# Altium integrated library Microchip Touch Screen Controller.IntLib: 26 symbols (part 1 of 2)
Pins are listed as number, name and electrical type; pins without a type are passive.

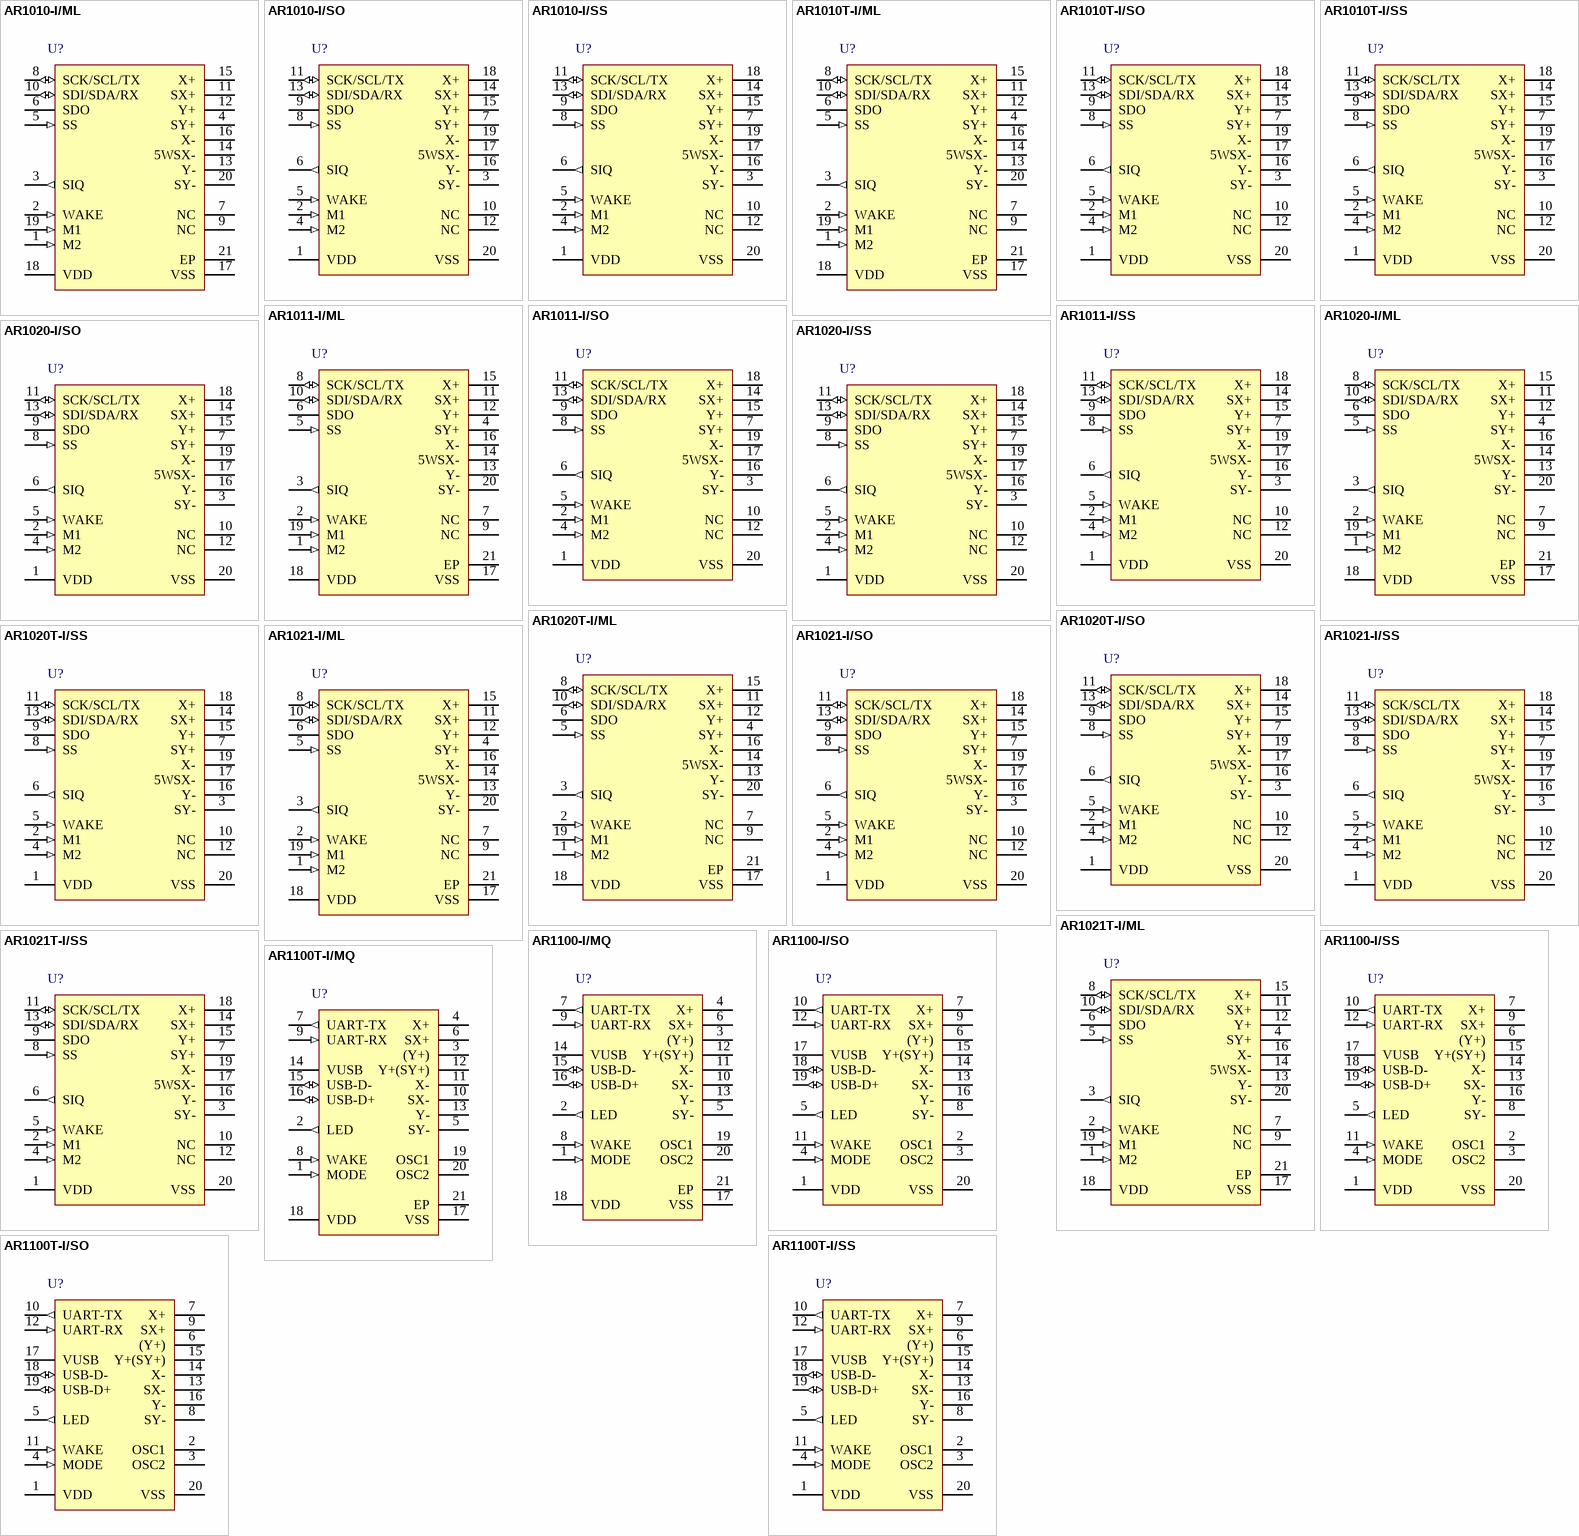
[diagram p0: symbols AR1010-I/ML to AR1100T-I/SS]

## AR1010-I/ML
designator U?
AR1000 Series Resistive Touch Screen Controller, 1024 x 1024 Resolution, 3.3 Vdc, 5.5 Vdc, UART Communication, -40 to 85 degC, 20-pin QFN (ML20), Tube; Manufacturer: Microchip; PartNumber: AR1010-I/ML; DatasheetVersion: Rev. B; PackageVersion: C04-126B; PackageReference: QFN-ML20; PackageDescription: 20-Lead Plastic Quad Flat, No Lead Package, 4 x 4 mm Body, 0.5 mm Pitch; Supplier 1: Digi-Key; Supplier Part Number 1: AR1010-I/ML-ND; Supplier 2: Farnell; Supplier Part Number 2: 1755836; Supplier 3: Newark; Supplier Part Number 3: 24R5595; Supplier 4: Mouser; Supplier Part Number 4: 579-AR1010-I/ML; Mounting Technology: Surface Mount; ComponentLink1Description: Manufacturer URL; ComponentLink1URL: http://www.microchip.com; ComponentLink2Description: Datasheet; ComponentLink2URL: http://ww1.microchip.com/downloads/en/DeviceDoc/41393B.pdf; ComponentLink3Description: Package Specification; ComponentLink3URL: http://www.microchip.com/stellent/groups/techpub_sg/documents/packagingspec/en012702.pdf; ComponentLink4Description: Product URL; ComponentLink4URL: http://www.microchip.com/AR1010
footprint MCHP-QFN-ML20_N (QFN, 20-Leads, Body 4x4mm, Pitch 0.5mm, Thermal Pad 2.7X2.7mm, IPC Medium Density)
footprint MCHP-QFN-ML20_L (QFN, 20-Leads, Body 4x4mm, Pitch 0.5mm, Thermal Pad 2.7X2.7mm, IPC High Density)
footprint MCHP-QFN-ML20_M (QFN, 20-Leads, Body 4x4mm, Pitch 0.5mm, Thermal Pad 2.7X2.7mm, IPC Low Density)
pins: 1 M2 (in) "4/8-wire or 5-wire Sensor  Selection", 2 WAKE (in) "Touch Wake-up/Touch Detection", 3 SIQ (out) "LED Drive/SPI Interrupt. No connect, if not used.", 4 SY+ "Sense Y+ (8-wire). Tie to VSS, if not used.", 5 SS (in) "Slave Select (SPI). Tie to VSS, if not used.", 6 SDO (hiz) "SPI Serial Data Output/I 2 C Interrupt. Tie to Vss, if UART.", 7 NC "No connection. No connect or tie to VSS or VDD.", 8 SCK/SCL/TX (io) "SPI/I2C Serial Clock/UART Transmit", 9 NC "No connection. No connect or tie to VSS or VDD.", 10 SDI/SDA/RX (io) "I2C Serial Data/SPI Serial Data Input/UART Receive", 11 SX+ "Sense X+ (8-wire). Tie to VSS, if not used.", 12 Y+ "Y+ Drive", 13 Y- "Y- Drive", 14 5WSX- "5W Sense (5-wire)/Sense X- (8-wire). Tie to VSS, if not used.", 15 X+ "X+ Drive", 16 X- "X- Drive", 17 VSS (power) "Supply Voltage Ground", 18 VDD (power) "Supply Voltage", 19 M1 (in) "Communication Selection", 20 SY- "Sense Y- (8-wire). Tie to VSS, if  not used.", 21 EP

## AR1010-I/SO
designator U?
AR1000 Series Resistive Touch Screen Controller, 1024 x 1024 Resolution, 3.3 Vdc, 5.5 Vdc, UART Communication, -40 to 85 degC, 20-pin SOIC (SO20), Tube; Manufacturer: Microchip; PartNumber: AR1010-I/SO; DatasheetVersion: Rev. B; PackageVersion: C04-094C; PackageReference: SOIC-SO20; PackageDescription: 20-Lead Plastic Small Outline, 7.5 x 12.8 mm Body, 1.27 mm Pitch; Supplier 1: Digi-Key; Supplier Part Number 1: AR1010-I/SO-ND; Supplier 2: Farnell; Supplier Part Number 2: 1755837; Supplier 3: Newark; Supplier Part Number 3: 24R5596; Supplier 4: Mouser; Supplier Part Number 4: 579-AR1010-I/SO; Mounting Technology: Surface Mount; ComponentLink1Description: Manufacturer URL; ComponentLink1URL: http://www.microchip.com; ComponentLink2Description: Datasheet; ComponentLink2URL: http://ww1.microchip.com/downloads/en/DeviceDoc/41393B.pdf; ComponentLink3Description: Package Specification; ComponentLink3URL: http://www.microchip.com/stellent/groups/techpub_sg/documents/packagingspec/en012702.pdf; ComponentLink4Description: Product URL; ComponentLink4URL: http://www.microchip.com/AR1010
footprint MCHP-SOIC-SO20_N (SOIC, 20-Leads, Body 12.8x7.5mm, Pitch 1.27mm, , IPC Medium Density)
footprint MCHP-SOIC-SO20_L (SOIC, 20-Leads, Body 12.8x7.5mm, Pitch 1.27mm, , IPC High Density)
footprint MCHP-SOIC-SO20_M (SOIC, 20-Leads, Body 12.8x7.5mm, Pitch 1.27mm, , IPC Low Density)
pins: 1 VDD (power) "Supply Voltage", 2 M1 (in) "Communication Selection", 3 SY- "Sense Y- (8-wire). Tie to VSS, if  not used.", 4 M2 (in) "4/8-wire or 5-wire Sensor  Selection", 5 WAKE (in) "Touch Wake-up/Touch Detection", 6 SIQ (out) "LED Drive/SPI Interrupt. No connect, if not used.", 7 SY+ "Sense Y+ (8-wire). Tie to VSS, if not used.", 8 SS (in) "Slave Select (SPI). Tie to VSS, if not used.", 9 SDO (hiz) "SPI Serial Data Output/I 2 C Interrupt. Tie to Vss, if UART.", 10 NC "No connection. No connect or tie to VSS or VDD.", 11 SCK/SCL/TX (io) "SPI/I2C Serial Clock/UART Transmit", 12 NC "No connection. No connect or tie to VSS or VDD.", 13 SDI/SDA/RX (io) "I2C Serial Data/SPI Serial Data Input/UART Receive", 14 SX+ "Sense X+ (8-wire). Tie to VSS, if not used.", 15 Y+ "Y+ Drive", 16 Y- "Y- Drive", 17 5WSX- "5W Sense (5-wire)/Sense X- (8-wire). Tie to VSS, if not used.", 18 X+ "X+ Drive", 19 X- "X- Drive", 20 VSS (power) "Supply Voltage Ground"

## AR1010-I/SS
designator U?
AR1000 Series Resistive Touch Screen Controller, 1024 x 1024 Resolution, 3.3 Vdc, 5.5 Vdc, UART Communication, -40 to 85 degC, 20-pin SSOP (SS20), Tube; Manufacturer: Microchip; PartNumber: AR1010-I/SS; DatasheetVersion: Rev. B; PackageVersion: C04-072B; PackageReference: SSOP-SS20; PackageDescription: 20-Lead Plastic Shrink Small Outline, 5.3 x 7.2 mm Body, 0.65 mm Pitch; Supplier 1: Digi-Key; Supplier Part Number 1: AR1010-I/SS-ND; Supplier 2: Farnell; Supplier Part Number 2: 1755838; Supplier 3: Newark; Supplier Part Number 3: 24R5597; Supplier 4: Mouser; Supplier Part Number 4: 579-AR1010-I/SS; Mounting Technology: Surface Mount; ComponentLink1Description: Manufacturer URL; ComponentLink1URL: http://www.microchip.com; ComponentLink2Description: Datasheet; ComponentLink2URL: http://ww1.microchip.com/downloads/en/DeviceDoc/41393B.pdf; ComponentLink3Description: Package Specification; ComponentLink3URL: http://www.microchip.com/stellent/groups/techpub_sg/documents/packagingspec/en012702.pdf; ComponentLink4Description: Product URL; ComponentLink4URL: http://www.microchip.com/AR1010
footprint MCHP-SSOP-SS20_N (SOP, 20-Leads, Body 7.2x5.3mm, Pitch 0.65mm, IPC Medium Density)
footprint MCHP-SSOP-SS20_L (SOP, 20-Leads, Body 7.2x5.3mm, Pitch 0.65mm, IPC High Density)
footprint MCHP-SSOP-SS20_M (SOP, 20-Leads, Body 7.2x5.3mm, Pitch 0.65mm, IPC Low Density)
pins: 1 VDD (power) "Supply Voltage", 2 M1 (in) "Communication Selection", 3 SY- "Sense Y- (8-wire). Tie to VSS, if  not used.", 4 M2 (in) "4/8-wire or 5-wire Sensor  Selection", 5 WAKE (in) "Touch Wake-up/Touch Detection", 6 SIQ (out) "LED Drive/SPI Interrupt. No connect, if not used.", 7 SY+ "Sense Y+ (8-wire). Tie to VSS, if not used.", 8 SS (in) "Slave Select (SPI). Tie to VSS, if not used.", 9 SDO (hiz) "SPI Serial Data Output/I 2 C Interrupt. Tie to Vss, if UART.", 10 NC "No connection. No connect or tie to VSS or VDD.", 11 SCK/SCL/TX (io) "SPI/I2C Serial Clock/UART Transmit", 12 NC "No connection. No connect or tie to VSS or VDD.", 13 SDI/SDA/RX (io) "I2C Serial Data/SPI Serial Data Input/UART Receive", 14 SX+ "Sense X+ (8-wire). Tie to VSS, if not used.", 15 Y+ "Y+ Drive", 16 Y- "Y- Drive", 17 5WSX- "5W Sense (5-wire)/Sense X- (8-wire). Tie to VSS, if not used.", 18 X+ "X+ Drive", 19 X- "X- Drive", 20 VSS (power) "Supply Voltage Ground"

## AR1010T-I/ML
designator U?
AR1000 Series Resistive Touch Screen Controller, 1024 x 1024 Resolution, 3.3 Vdc, 5.5 Vdc, UART Communication, -40 to 85 degC, 20-pin QFN (ML20), Tape and Reel; Manufacturer: Microchip; PartNumber: AR1010T-I/ML; DatasheetVersion: Rev. B; PackageVersion: C04-126B; PackageReference: QFN-ML20; PackageDescription: 20-Lead Plastic Quad Flat, No Lead Package, 4 x 4 mm Body, 0.5 mm Pitch; Supplier 1: Digi-Key; Supplier Part Number 1: AR1010T-I/ML-ND; Supplier 2: Farnell; Supplier Part Number 2: 1762647; Supplier 3: Mouser; Supplier Part Number 3: 579-AR1010T-I/ML; Mounting Technology: Surface Mount; ComponentLink1Description: Manufacturer URL; ComponentLink1URL: http://www.microchip.com; ComponentLink2Description: Datasheet; ComponentLink2URL: http://ww1.microchip.com/downloads/en/DeviceDoc/41393B.pdf; ComponentLink3Description: Package Specification; ComponentLink3URL: http://www.microchip.com/stellent/groups/techpub_sg/documents/packagingspec/en012702.pdf; ComponentLink4Description: Product URL; ComponentLink4URL: http://www.microchip.com/AR1010
footprint MCHP-QFN-ML20_N (QFN, 20-Leads, Body 4x4mm, Pitch 0.5mm, Thermal Pad 2.7X2.7mm, IPC Medium Density)
footprint MCHP-QFN-ML20_L (QFN, 20-Leads, Body 4x4mm, Pitch 0.5mm, Thermal Pad 2.7X2.7mm, IPC High Density)
footprint MCHP-QFN-ML20_M (QFN, 20-Leads, Body 4x4mm, Pitch 0.5mm, Thermal Pad 2.7X2.7mm, IPC Low Density)
pins: 1 M2 (in) "4/8-wire or 5-wire Sensor  Selection", 2 WAKE (in) "Touch Wake-up/Touch Detection", 3 SIQ (out) "LED Drive/SPI Interrupt. No connect, if not used.", 4 SY+ "Sense Y+ (8-wire). Tie to VSS, if not used.", 5 SS (in) "Slave Select (SPI). Tie to VSS, if not used.", 6 SDO (hiz) "SPI Serial Data Output/I 2 C Interrupt. Tie to Vss, if UART.", 7 NC "No connection. No connect or tie to VSS or VDD.", 8 SCK/SCL/TX (io) "SPI/I2C Serial Clock/UART Transmit", 9 NC "No connection. No connect or tie to VSS or VDD.", 10 SDI/SDA/RX (io) "I2C Serial Data/SPI Serial Data Input/UART Receive", 11 SX+ "Sense X+ (8-wire). Tie to VSS, if not used.", 12 Y+ "Y+ Drive", 13 Y- "Y- Drive", 14 5WSX- "5W Sense (5-wire)/Sense X- (8-wire). Tie to VSS, if not used.", 15 X+ "X+ Drive", 16 X- "X- Drive", 17 VSS (power) "Supply Voltage Ground", 18 VDD (power) "Supply Voltage", 19 M1 (in) "Communication Selection", 20 SY- "Sense Y- (8-wire). Tie to VSS, if  not used.", 21 EP

## AR1010T-I/SO
designator U?
AR1000 Series Resistive Touch Screen Controller, 1024 x 1024 Resolution, 3.3 Vdc, 5.5 Vdc, UART Communication, -40 to 85 degC, 20-pin SOIC (SO20), Tape and Reel; Manufacturer: Microchip; PartNumber: AR1010T-I/SO; DatasheetVersion: Rev. B; PackageVersion: C04-094C; PackageReference: SOIC-SO20; PackageDescription: 20-Lead Plastic Small Outline, 7.5 x 12.8 mm Body, 1.27 mm Pitch; Supplier 1: Digi-Key; Supplier Part Number 1: AR1010T-I/SO-ND; Supplier 2: Farnell; Supplier Part Number 2: 1762648; Supplier 3: Farnell; Supplier Part Number 3: 1762648RL; Supplier 4: Newark; Supplier Part Number 4: 24R5599; Supplier 5: Mouser; Supplier Part Number 5: 579-AR1010T-I/SO; Mounting Technology: Surface Mount; ComponentLink1Description: Manufacturer URL; ComponentLink1URL: http://www.microchip.com; ComponentLink2Description: Datasheet; ComponentLink2URL: http://ww1.microchip.com/downloads/en/DeviceDoc/41393B.pdf; ComponentLink3Description: Package Specification; ComponentLink3URL: http://www.microchip.com/stellent/groups/techpub_sg/documents/packagingspec/en012702.pdf; ComponentLink4Description: Product URL; ComponentLink4URL: http://www.microchip.com/AR1010
footprint MCHP-SOIC-SO20_N (SOIC, 20-Leads, Body 12.8x7.5mm, Pitch 1.27mm, , IPC Medium Density)
footprint MCHP-SOIC-SO20_L (SOIC, 20-Leads, Body 12.8x7.5mm, Pitch 1.27mm, , IPC High Density)
footprint MCHP-SOIC-SO20_M (SOIC, 20-Leads, Body 12.8x7.5mm, Pitch 1.27mm, , IPC Low Density)
pins: 1 VDD (power) "Supply Voltage", 2 M1 (in) "Communication Selection", 3 SY- "Sense Y- (8-wire). Tie to VSS, if  not used.", 4 M2 (in) "4/8-wire or 5-wire Sensor  Selection", 5 WAKE (in) "Touch Wake-up/Touch Detection", 6 SIQ (out) "LED Drive/SPI Interrupt. No connect, if not used.", 7 SY+ "Sense Y+ (8-wire). Tie to VSS, if not used.", 8 SS (in) "Slave Select (SPI). Tie to VSS, if not used.", 9 SDO (hiz) "SPI Serial Data Output/I 2 C Interrupt. Tie to Vss, if UART.", 10 NC "No connection. No connect or tie to VSS or VDD.", 11 SCK/SCL/TX (io) "SPI/I2C Serial Clock/UART Transmit", 12 NC "No connection. No connect or tie to VSS or VDD.", 13 SDI/SDA/RX (io) "I2C Serial Data/SPI Serial Data Input/UART Receive", 14 SX+ "Sense X+ (8-wire). Tie to VSS, if not used.", 15 Y+ "Y+ Drive", 16 Y- "Y- Drive", 17 5WSX- "5W Sense (5-wire)/Sense X- (8-wire). Tie to VSS, if not used.", 18 X+ "X+ Drive", 19 X- "X- Drive", 20 VSS (power) "Supply Voltage Ground"

## AR1010T-I/SS
designator U?
AR1000 Series Resistive Touch Screen Controller, 1024 x 1024 Resolution, 3.3 Vdc, 5.5 Vdc, UART Communication, -40 to 85 degC, 20-pin SSOP (SS20), Tape and Reel; Manufacturer: Microchip; PartNumber: AR1010T-I/SS; DatasheetVersion: Rev. B; PackageVersion: C04-072B; PackageReference: SSOP-SS20; PackageDescription: 20-Lead Plastic Shrink Small Outline, 5.3 x 7.2 mm Body, 0.65 mm Pitch; Supplier 1: Digi-Key; Supplier Part Number 1: AR1010T-I/SS-ND; Supplier 2: Farnell; Supplier Part Number 2: 1762649RL; Supplier 3: Farnell; Supplier Part Number 3: 1762649; Supplier 4: Newark; Supplier Part Number 4: 51R8671; Supplier 5: Newark; Supplier Part Number 5: 24R5600; Supplier 6: Mouser; Supplier Part Number 6: 579-AR1010T-I/SS; Mounting Technology: Surface Mount; ComponentLink1Description: Manufacturer URL; ComponentLink1URL: http://www.microchip.com; ComponentLink2Description: Datasheet; ComponentLink2URL: http://ww1.microchip.com/downloads/en/DeviceDoc/41393B.pdf; ComponentLink3Description: Package Specification; ComponentLink3URL: http://www.microchip.com/stellent/groups/techpub_sg/documents/packagingspec/en012702.pdf; ComponentLink4Description: Product URL; ComponentLink4URL: http://www.microchip.com/AR1010
footprint MCHP-SSOP-SS20_N (SOP, 20-Leads, Body 7.2x5.3mm, Pitch 0.65mm, IPC Medium Density)
footprint MCHP-SSOP-SS20_L (SOP, 20-Leads, Body 7.2x5.3mm, Pitch 0.65mm, IPC High Density)
footprint MCHP-SSOP-SS20_M (SOP, 20-Leads, Body 7.2x5.3mm, Pitch 0.65mm, IPC Low Density)
pins: 1 VDD (power) "Supply Voltage", 2 M1 (in) "Communication Selection", 3 SY- "Sense Y- (8-wire). Tie to VSS, if  not used.", 4 M2 (in) "4/8-wire or 5-wire Sensor  Selection", 5 WAKE (in) "Touch Wake-up/Touch Detection", 6 SIQ (out) "LED Drive/SPI Interrupt. No connect, if not used.", 7 SY+ "Sense Y+ (8-wire). Tie to VSS, if not used.", 8 SS (in) "Slave Select (SPI). Tie to VSS, if not used.", 9 SDO (hiz) "SPI Serial Data Output/I 2 C Interrupt. Tie to Vss, if UART.", 10 NC "No connection. No connect or tie to VSS or VDD.", 11 SCK/SCL/TX (io) "SPI/I2C Serial Clock/UART Transmit", 12 NC "No connection. No connect or tie to VSS or VDD.", 13 SDI/SDA/RX (io) "I2C Serial Data/SPI Serial Data Input/UART Receive", 14 SX+ "Sense X+ (8-wire). Tie to VSS, if not used.", 15 Y+ "Y+ Drive", 16 Y- "Y- Drive", 17 5WSX- "5W Sense (5-wire)/Sense X- (8-wire). Tie to VSS, if not used.", 18 X+ "X+ Drive", 19 X- "X- Drive", 20 VSS (power) "Supply Voltage Ground"

## AR1011-I/ML
designator U?
AR1000 Series Resistive Touch Screen Controller, 1024 x 1024 Resolution, 3.3 Vdc, 5.5 Vdc power, UART Communication, -40 to 85 degC, 20-pin QFN (ML20), Tube; Manufacturer: Microchip; PartNumber: AR1011-I/ML; DatasheetVersion: Rev. B; PackageVersion: C04-126B; PackageReference: QFN-ML20; PackageDescription: 20-Lead Plastic Quad Flat, No Lead Package, 4 x 4 mm Body, 0.5 mm Pitch; Supplier 1: Digi-Key; Supplier Part Number 1: AR1011-I/ML-ND; Supplier 2: Newark; Supplier Part Number 2: 94T7245; Supplier 3: Mouser; Supplier Part Number 3: 579-AR1011-I/ML; Mounting Technology: Surface Mount; ComponentLink1Description: Manufacturer URL; ComponentLink1URL: http://www.microchip.com; ComponentLink2Description: Datasheet; ComponentLink2URL: http://ww1.microchip.com/downloads/en/DeviceDoc/41393B.pdf; ComponentLink3Description: Package Specification; ComponentLink3URL: http://www.microchip.com/stellent/groups/techpub_sg/documents/packagingspec/en012702.pdf; ComponentLink4Description: Product URL; ComponentLink4URL: http://www.microchip.com/AR1011
footprint MCHP-QFN-ML20_N (QFN, 20-Leads, Body 4x4mm, Pitch 0.5mm, Thermal Pad 2.7X2.7mm, IPC Medium Density)
footprint MCHP-QFN-ML20_L (QFN, 20-Leads, Body 4x4mm, Pitch 0.5mm, Thermal Pad 2.7X2.7mm, IPC High Density)
footprint MCHP-QFN-ML20_M (QFN, 20-Leads, Body 4x4mm, Pitch 0.5mm, Thermal Pad 2.7X2.7mm, IPC Low Density)
pins: 1 M2 (in) "4/8-wire or 5-wire Sensor  Selection", 2 WAKE (in) "Touch Wake-up/Touch Detection", 3 SIQ (out) "LED Drive/SPI Interrupt. No connect, if not used.", 4 SY+ "Sense Y+ (8-wire). Tie to VSS, if not used.", 5 SS (in) "Slave Select (SPI). Tie to VSS, if not used.", 6 SDO (hiz) "SPI Serial Data Output/I 2 C Interrupt. Tie to Vss, if UART.", 7 NC "No connection. No connect or tie to VSS or VDD.", 8 SCK/SCL/TX (io) "SPI/I2C Serial Clock/UART Transmit", 9 NC "No connection. No connect or tie to VSS or VDD.", 10 SDI/SDA/RX (io) "I2C Serial Data/SPI Serial Data Input/UART Receive", 11 SX+ "Sense X+ (8-wire). Tie to VSS, if not used.", 12 Y+ "Y+ Drive", 13 Y- "Y- Drive", 14 5WSX- "5W Sense (5-wire)/Sense X- (8-wire). Tie to VSS, if not used.", 15 X+ "X+ Drive", 16 X- "X- Drive", 17 VSS (power) "Supply Voltage Ground", 18 VDD (power) "Supply Voltage", 19 M1 (in) "Communication Selection", 20 SY- "Sense Y- (8-wire). Tie to VSS, if  not used.", 21 EP

## AR1011-I/SO
designator U?
AR1000 Series Resistive Touch Screen Controller, 1024 x 1024 Resolution, 3.3 Vdc, 5.5 Vdc power, UART Communication, -40 to 85 degC, 20-pin SOIC (SO20), Tube; Manufacturer: Microchip; PartNumber: AR1011-I/SO; DatasheetVersion: Rev. B; PackageVersion: C04-094C; PackageReference: SOIC-SO20; PackageDescription: 20-Lead Plastic Small Outline, 7.5 x 12.8 mm Body, 1.27 mm Pitch; Supplier 1: Digi-Key; Supplier Part Number 1: AR1011-I/SO-ND; Supplier 2: Newark; Supplier Part Number 2: 26W8078; Supplier 3: Mouser; Supplier Part Number 3: 579-AR1011-I/SO; Mounting Technology: Surface Mount; ComponentLink1Description: Manufacturer URL; ComponentLink1URL: http://www.microchip.com; ComponentLink2Description: Datasheet; ComponentLink2URL: http://ww1.microchip.com/downloads/en/DeviceDoc/41393B.pdf; ComponentLink3Description: Package Specification; ComponentLink3URL: http://www.microchip.com/stellent/groups/techpub_sg/documents/packagingspec/en012702.pdf; ComponentLink4Description: Product URL; ComponentLink4URL: http://www.microchip.com/AR1011
footprint MCHP-SOIC-SO20_N (SOIC, 20-Leads, Body 12.8x7.5mm, Pitch 1.27mm, , IPC Medium Density)
footprint MCHP-SOIC-SO20_L (SOIC, 20-Leads, Body 12.8x7.5mm, Pitch 1.27mm, , IPC High Density)
footprint MCHP-SOIC-SO20_M (SOIC, 20-Leads, Body 12.8x7.5mm, Pitch 1.27mm, , IPC Low Density)
pins: 1 VDD (power) "Supply Voltage", 2 M1 (in) "Communication Selection", 3 SY- "Sense Y- (8-wire). Tie to VSS, if  not used.", 4 M2 (in) "4/8-wire or 5-wire Sensor  Selection", 5 WAKE (in) "Touch Wake-up/Touch Detection", 6 SIQ (out) "LED Drive/SPI Interrupt. No connect, if not used.", 7 SY+ "Sense Y+ (8-wire). Tie to VSS, if not used.", 8 SS (in) "Slave Select (SPI). Tie to VSS, if not used.", 9 SDO (hiz) "SPI Serial Data Output/I 2 C Interrupt. Tie to Vss, if UART.", 10 NC "No connection. No connect or tie to VSS or VDD.", 11 SCK/SCL/TX (io) "SPI/I2C Serial Clock/UART Transmit", 12 NC "No connection. No connect or tie to VSS or VDD.", 13 SDI/SDA/RX (io) "I2C Serial Data/SPI Serial Data Input/UART Receive", 14 SX+ "Sense X+ (8-wire). Tie to VSS, if not used.", 15 Y+ "Y+ Drive", 16 Y- "Y- Drive", 17 5WSX- "5W Sense (5-wire)/Sense X- (8-wire). Tie to VSS, if not used.", 18 X+ "X+ Drive", 19 X- "X- Drive", 20 VSS (power) "Supply Voltage Ground"

## AR1011-I/SS
designator U?
AR1000 Series Resistive Touch Screen Controller, 1024 x 1024 Resolution, 3.3 Vdc, 5.5 Vdc power, UART Communication, -40 to 85 degC, 20-pin SSOP (SS20), Tube; Manufacturer: Microchip; PartNumber: AR1011-I/SS; DatasheetVersion: Rev. B; PackageVersion: C04-072B; PackageReference: SSOP-SS20; PackageDescription: 20-Lead Plastic Shrink Small Outline, 5.3 x 7.2 mm Body, 0.65 mm Pitch; Supplier 1: Digi-Key; Supplier Part Number 1: AR1011-I/SS-ND; Supplier 2: Farnell; Supplier Part Number 2: 2218567; Supplier 3: Newark; Supplier Part Number 3: 94T7246; Supplier 4: Mouser; Supplier Part Number 4: 579-AR1011-I/SS; Mounting Technology: Surface Mount; ComponentLink1Description: Manufacturer URL; ComponentLink1URL: http://www.microchip.com; ComponentLink2Description: Datasheet; ComponentLink2URL: http://ww1.microchip.com/downloads/en/DeviceDoc/41393B.pdf; ComponentLink3Description: Package Specification; ComponentLink3URL: http://www.microchip.com/stellent/groups/techpub_sg/documents/packagingspec/en012702.pdf; ComponentLink4Description: Product URL; ComponentLink4URL: http://www.microchip.com/AR1011
footprint MCHP-SSOP-SS20_N (SOP, 20-Leads, Body 7.2x5.3mm, Pitch 0.65mm, IPC Medium Density)
footprint MCHP-SSOP-SS20_L (SOP, 20-Leads, Body 7.2x5.3mm, Pitch 0.65mm, IPC High Density)
footprint MCHP-SSOP-SS20_M (SOP, 20-Leads, Body 7.2x5.3mm, Pitch 0.65mm, IPC Low Density)
pins: 1 VDD (power) "Supply Voltage", 2 M1 (in) "Communication Selection", 3 SY- "Sense Y- (8-wire). Tie to VSS, if  not used.", 4 M2 (in) "4/8-wire or 5-wire Sensor  Selection", 5 WAKE (in) "Touch Wake-up/Touch Detection", 6 SIQ (out) "LED Drive/SPI Interrupt. No connect, if not used.", 7 SY+ "Sense Y+ (8-wire). Tie to VSS, if not used.", 8 SS (in) "Slave Select (SPI). Tie to VSS, if not used.", 9 SDO (hiz) "SPI Serial Data Output/I 2 C Interrupt. Tie to Vss, if UART.", 10 NC "No connection. No connect or tie to VSS or VDD.", 11 SCK/SCL/TX (io) "SPI/I2C Serial Clock/UART Transmit", 12 NC "No connection. No connect or tie to VSS or VDD.", 13 SDI/SDA/RX (io) "I2C Serial Data/SPI Serial Data Input/UART Receive", 14 SX+ "Sense X+ (8-wire). Tie to VSS, if not used.", 15 Y+ "Y+ Drive", 16 Y- "Y- Drive", 17 5WSX- "5W Sense (5-wire)/Sense X- (8-wire). Tie to VSS, if not used.", 18 X+ "X+ Drive", 19 X- "X- Drive", 20 VSS (power) "Supply Voltage Ground"

## AR1020-I/ML
designator U?
AR1000 Series Resistive Touch Screen Controller, 1024 x 1024 Resolution, 3.3 Vdc, 5.5 Vdc power, SPI, I²C™ Communication, -40 to 85 degC, 20-pin QFN (ML20), Tube; Manufacturer: Microchip; PartNumber: AR1020-I/ML; DatasheetVersion: Rev. B; PackageVersion: C04-126B; PackageReference: QFN-ML20; PackageDescription: 20-Lead Plastic Quad Flat, No Lead Package, 4 x 4 mm Body, 0.5 mm Pitch; Supplier 1: Digi-Key; Supplier Part Number 1: AR1020-I/ML-ND; Supplier 2: Farnell; Supplier Part Number 2: 1755839; Supplier 3: Newark; Supplier Part Number 3: 24R5601; Supplier 4: Mouser; Supplier Part Number 4: 579-AR1020-I/ML; Mounting Technology: Surface Mount; ComponentLink1Description: Manufacturer URL; ComponentLink1URL: http://www.microchip.com; ComponentLink2Description: Datasheet; ComponentLink2URL: http://ww1.microchip.com/downloads/en/DeviceDoc/41393B.pdf; ComponentLink3Description: Package Specification; ComponentLink3URL: http://www.microchip.com/stellent/groups/techpub_sg/documents/packagingspec/en012702.pdf; ComponentLink4Description: Product URL; ComponentLink4URL: http://www.microchip.com/AR1020
footprint MCHP-QFN-ML20_N (QFN, 20-Leads, Body 4x4mm, Pitch 0.5mm, Thermal Pad 2.7X2.7mm, IPC Medium Density)
footprint MCHP-QFN-ML20_L (QFN, 20-Leads, Body 4x4mm, Pitch 0.5mm, Thermal Pad 2.7X2.7mm, IPC High Density)
footprint MCHP-QFN-ML20_M (QFN, 20-Leads, Body 4x4mm, Pitch 0.5mm, Thermal Pad 2.7X2.7mm, IPC Low Density)
pins: 1 M2 (in) "4/8-wire or 5-wire Sensor  Selection", 2 WAKE (in) "Touch Wake-up/Touch Detection", 3 SIQ (out) "LED Drive/SPI Interrupt. No connect, if not used.", 4 SY+ "Sense Y+ (8-wire). Tie to VSS, if not used.", 5 SS (in) "Slave Select (SPI). Tie to VSS, if not used.", 6 SDO (hiz) "SPI Serial Data Output/I 2 C Interrupt. Tie to Vss, if UART.", 7 NC "No connection. No connect or tie to VSS or VDD.", 8 SCK/SCL/TX (io) "SPI/I2C Serial Clock/UART Transmit", 9 NC "No connection. No connect or tie to VSS or VDD.", 10 SDI/SDA/RX (io) "I2C Serial Data/SPI Serial Data Input/UART Receive", 11 SX+ "Sense X+ (8-wire). Tie to VSS, if not used.", 12 Y+ "Y+ Drive", 13 Y- "Y- Drive", 14 5WSX- "5W Sense (5-wire)/Sense X- (8-wire). Tie to VSS, if not used.", 15 X+ "X+ Drive", 16 X- "X- Drive", 17 VSS (power) "Supply Voltage Ground", 18 VDD (power) "Supply Voltage", 19 M1 (in) "Communication Selection", 20 SY- "Sense Y- (8-wire). Tie to VSS, if  not used.", 21 EP

## AR1020-I/SO
designator U?
AR1000 Series Resistive Touch Screen Controller, 1024 x 1024 Resolution, 3.3 Vdc, 5.5 Vdc power, SPI, I²C™ Communication, -40 to 85 degC, 20-pin SOIC (SO20), Tube; Manufacturer: Microchip; PartNumber: AR1020-I/SO; DatasheetVersion: Rev. B; PackageVersion: C04-094C; PackageReference: SOIC-SO20; PackageDescription: 20-Lead Plastic Small Outline, 7.5 x 12.8 mm Body, 1.27 mm Pitch; Supplier 1: Digi-Key; Supplier Part Number 1: AR1020-I/SO-ND; Supplier 2: Farnell; Supplier Part Number 2: 1755840; Supplier 3: Newark; Supplier Part Number 3: 24R5602; Supplier 4: Mouser; Supplier Part Number 4: 579-AR1020-I/SO; Mounting Technology: Surface Mount; ComponentLink1Description: Manufacturer URL; ComponentLink1URL: http://www.microchip.com; ComponentLink2Description: Datasheet; ComponentLink2URL: http://ww1.microchip.com/downloads/en/DeviceDoc/41393B.pdf; ComponentLink3Description: Package Specification; ComponentLink3URL: http://www.microchip.com/stellent/groups/techpub_sg/documents/packagingspec/en012702.pdf; ComponentLink4Description: Product URL; ComponentLink4URL: http://www.microchip.com/AR1020
footprint MCHP-SOIC-SO20_N (SOIC, 20-Leads, Body 12.8x7.5mm, Pitch 1.27mm, , IPC Medium Density)
footprint MCHP-SOIC-SO20_L (SOIC, 20-Leads, Body 12.8x7.5mm, Pitch 1.27mm, , IPC High Density)
footprint MCHP-SOIC-SO20_M (SOIC, 20-Leads, Body 12.8x7.5mm, Pitch 1.27mm, , IPC Low Density)
pins: 1 VDD (power) "Supply Voltage", 2 M1 (in) "Communication Selection", 3 SY- "Sense Y- (8-wire). Tie to VSS, if  not used.", 4 M2 (in) "4/8-wire or 5-wire Sensor  Selection", 5 WAKE (in) "Touch Wake-up/Touch Detection", 6 SIQ (out) "LED Drive/SPI Interrupt. No connect, if not used.", 7 SY+ "Sense Y+ (8-wire). Tie to VSS, if not used.", 8 SS (in) "Slave Select (SPI). Tie to VSS, if not used.", 9 SDO (hiz) "SPI Serial Data Output/I 2 C Interrupt. Tie to Vss, if UART.", 10 NC "No connection. No connect or tie to VSS or VDD.", 11 SCK/SCL/TX (io) "SPI/I2C Serial Clock/UART Transmit", 12 NC "No connection. No connect or tie to VSS or VDD.", 13 SDI/SDA/RX (io) "I2C Serial Data/SPI Serial Data Input/UART Receive", 14 SX+ "Sense X+ (8-wire). Tie to VSS, if not used.", 15 Y+ "Y+ Drive", 16 Y- "Y- Drive", 17 5WSX- "5W Sense (5-wire)/Sense X- (8-wire). Tie to VSS, if not used.", 18 X+ "X+ Drive", 19 X- "X- Drive", 20 VSS (power) "Supply Voltage Ground"

## AR1020-I/SS
designator U?
AR1000 Series Resistive Touch Screen Controller, 1024 x 1024 Resolution, 3.3 Vdc, 5.5 Vdc power, SPI, I²C™ Communication, -40 to 85 degC, 20-pin SSOP (SS20), Tube; Manufacturer: Microchip; PartNumber: AR1020-I/SS; DatasheetVersion: Rev. B; PackageVersion: C04-072B; PackageReference: SSOP-SS20; PackageDescription: 20-Lead Plastic Shrink Small Outline, 5.3 x 7.2 mm Body, 0.65 mm Pitch; Supplier 1: Digi-Key; Supplier Part Number 1: AR1020-I/SS-ND; Supplier 2: Farnell; Supplier Part Number 2: 1755841; Supplier 3: Newark; Supplier Part Number 3: 24R5603; Supplier 4: Mouser; Supplier Part Number 4: 579-AR1020-I/SS; Mounting Technology: Surface Mount; ComponentLink1Description: Manufacturer URL; ComponentLink1URL: http://www.microchip.com; ComponentLink2Description: Datasheet; ComponentLink2URL: http://ww1.microchip.com/downloads/en/DeviceDoc/41393B.pdf; ComponentLink3Description: Package Specification; ComponentLink3URL: http://www.microchip.com/stellent/groups/techpub_sg/documents/packagingspec/en012702.pdf; ComponentLink4Description: Product URL; ComponentLink4URL: http://www.microchip.com/AR1020
footprint MCHP-SSOP-SS20_N (SOP, 20-Leads, Body 7.2x5.3mm, Pitch 0.65mm, IPC Medium Density)
footprint MCHP-SSOP-SS20_L (SOP, 20-Leads, Body 7.2x5.3mm, Pitch 0.65mm, IPC High Density)
footprint MCHP-SSOP-SS20_M (SOP, 20-Leads, Body 7.2x5.3mm, Pitch 0.65mm, IPC Low Density)
pins: 1 VDD (power) "Supply Voltage", 2 M1 (in) "Communication Selection", 3 SY- "Sense Y- (8-wire). Tie to VSS, if  not used.", 4 M2 (in) "4/8-wire or 5-wire Sensor  Selection", 5 WAKE (in) "Touch Wake-up/Touch Detection", 6 SIQ (out) "LED Drive/SPI Interrupt. No connect, if not used.", 7 SY+ "Sense Y+ (8-wire). Tie to VSS, if not used.", 8 SS (in) "Slave Select (SPI). Tie to VSS, if not used.", 9 SDO (hiz) "SPI Serial Data Output/I 2 C Interrupt. Tie to Vss, if UART.", 10 NC "No connection. No connect or tie to VSS or VDD.", 11 SCK/SCL/TX (io) "SPI/I2C Serial Clock/UART Transmit", 12 NC "No connection. No connect or tie to VSS or VDD.", 13 SDI/SDA/RX (io) "I2C Serial Data/SPI Serial Data Input/UART Receive", 14 SX+ "Sense X+ (8-wire). Tie to VSS, if not used.", 15 Y+ "Y+ Drive", 16 Y- "Y- Drive", 17 5WSX- "5W Sense (5-wire)/Sense X- (8-wire). Tie to VSS, if not used.", 18 X+ "X+ Drive", 19 X- "X- Drive", 20 VSS (power) "Supply Voltage Ground"

## AR1020T-I/ML
designator U?
AR1000 Series Resistive Touch Screen Controller, 1024 x 1024 Resolution, 3.3 Vdc, 5.5 Vdc power, SPI, I²C™ Communication, -40 to 85 degC, 20-pin QFN (ML20), Tape and Reel; Manufacturer: Microchip; PartNumber: AR1020T-I/ML; DatasheetVersion: Rev. B; PackageVersion: C04-126B; PackageReference: QFN-ML20; PackageDescription: 20-Lead Plastic Quad Flat, No Lead Package, 4 x 4 mm Body, 0.5 mm Pitch; Supplier 1: Digi-Key; Supplier Part Number 1: AR1020T-I/ML-ND; Supplier 2: Farnell; Supplier Part Number 2: 1762650; Supplier 3: Farnell; Supplier Part Number 3: 1762650RL; Supplier 4: Newark; Supplier Part Number 4: 51R8672; Supplier 5: Mouser; Supplier Part Number 5: 579-AR1020T-I/ML; Mounting Technology: Surface Mount; ComponentLink1Description: Manufacturer URL; ComponentLink1URL: http://www.microchip.com; ComponentLink2Description: Datasheet; ComponentLink2URL: http://ww1.microchip.com/downloads/en/DeviceDoc/41393B.pdf; ComponentLink3Description: Package Specification; ComponentLink3URL: http://www.microchip.com/stellent/groups/techpub_sg/documents/packagingspec/en012702.pdf; ComponentLink4Description: Product URL; ComponentLink4URL: http://www.microchip.com/AR1020
footprint MCHP-QFN-ML20_N (QFN, 20-Leads, Body 4x4mm, Pitch 0.5mm, Thermal Pad 2.7X2.7mm, IPC Medium Density)
footprint MCHP-QFN-ML20_L (QFN, 20-Leads, Body 4x4mm, Pitch 0.5mm, Thermal Pad 2.7X2.7mm, IPC High Density)
footprint MCHP-QFN-ML20_M (QFN, 20-Leads, Body 4x4mm, Pitch 0.5mm, Thermal Pad 2.7X2.7mm, IPC Low Density)
pins: 1 M2 (in) "4/8-wire or 5-wire Sensor  Selection", 2 WAKE (in) "Touch Wake-up/Touch Detection", 3 SIQ (out) "LED Drive/SPI Interrupt. No connect, if not used.", 4 SY+ "Sense Y+ (8-wire). Tie to VSS, if not used.", 5 SS (in) "Slave Select (SPI). Tie to VSS, if not used.", 6 SDO (hiz) "SPI Serial Data Output/I 2 C Interrupt. Tie to Vss, if UART.", 7 NC "No connection. No connect or tie to VSS or VDD.", 8 SCK/SCL/TX (io) "SPI/I2C Serial Clock/UART Transmit", 9 NC "No connection. No connect or tie to VSS or VDD.", 10 SDI/SDA/RX (io) "I2C Serial Data/SPI Serial Data Input/UART Receive", 11 SX+ "Sense X+ (8-wire). Tie to VSS, if not used.", 12 Y+ "Y+ Drive", 13 Y- "Y- Drive", 14 5WSX- "5W Sense (5-wire)/Sense X- (8-wire). Tie to VSS, if not used.", 15 X+ "X+ Drive", 16 X- "X- Drive", 17 VSS (power) "Supply Voltage Ground", 18 VDD (power) "Supply Voltage", 19 M1 (in) "Communication Selection", 20 SY- "Sense Y- (8-wire). Tie to VSS, if  not used.", 21 EP

## AR1020T-I/SO
designator U?
AR1000 Series Resistive Touch Screen Controller, 1024 x 1024 Resolution, 3.3 Vdc, 5.5 Vdc power, SPI, I²C™ Communication, -40 to 85 degC, 20-pin SOIC (SO20), Tape and Reel; Manufacturer: Microchip; PartNumber: AR1020T-I/SO; DatasheetVersion: Rev. B; PackageVersion: C04-094C; PackageReference: SOIC-SO20; PackageDescription: 20-Lead Plastic Small Outline, 7.5 x 12.8 mm Body, 1.27 mm Pitch; Supplier 1: Digi-Key; Supplier Part Number 1: AR1020T-I/SO-ND; Supplier 2: Farnell; Supplier Part Number 2: 1762651RL; Supplier 3: Farnell; Supplier Part Number 3: 1762651; Supplier 4: Newark; Supplier Part Number 4: 51R8673; Supplier 5: Mouser; Supplier Part Number 5: 579-AR1020T-I/SO; Mounting Technology: Surface Mount; ComponentLink1Description: Manufacturer URL; ComponentLink1URL: http://www.microchip.com; ComponentLink2Description: Datasheet; ComponentLink2URL: http://ww1.microchip.com/downloads/en/DeviceDoc/41393B.pdf; ComponentLink3Description: Package Specification; ComponentLink3URL: http://www.microchip.com/stellent/groups/techpub_sg/documents/packagingspec/en012702.pdf; ComponentLink4Description: Product URL; ComponentLink4URL: http://www.microchip.com/AR1020
footprint MCHP-SOIC-SO20_N (SOIC, 20-Leads, Body 12.8x7.5mm, Pitch 1.27mm, , IPC Medium Density)
footprint MCHP-SOIC-SO20_L (SOIC, 20-Leads, Body 12.8x7.5mm, Pitch 1.27mm, , IPC High Density)
footprint MCHP-SOIC-SO20_M (SOIC, 20-Leads, Body 12.8x7.5mm, Pitch 1.27mm, , IPC Low Density)
pins: 1 VDD (power) "Supply Voltage", 2 M1 (in) "Communication Selection", 3 SY- "Sense Y- (8-wire). Tie to VSS, if  not used.", 4 M2 (in) "4/8-wire or 5-wire Sensor  Selection", 5 WAKE (in) "Touch Wake-up/Touch Detection", 6 SIQ (out) "LED Drive/SPI Interrupt. No connect, if not used.", 7 SY+ "Sense Y+ (8-wire). Tie to VSS, if not used.", 8 SS (in) "Slave Select (SPI). Tie to VSS, if not used.", 9 SDO (hiz) "SPI Serial Data Output/I 2 C Interrupt. Tie to Vss, if UART.", 10 NC "No connection. No connect or tie to VSS or VDD.", 11 SCK/SCL/TX (io) "SPI/I2C Serial Clock/UART Transmit", 12 NC "No connection. No connect or tie to VSS or VDD.", 13 SDI/SDA/RX (io) "I2C Serial Data/SPI Serial Data Input/UART Receive", 14 SX+ "Sense X+ (8-wire). Tie to VSS, if not used.", 15 Y+ "Y+ Drive", 16 Y- "Y- Drive", 17 5WSX- "5W Sense (5-wire)/Sense X- (8-wire). Tie to VSS, if not used.", 18 X+ "X+ Drive", 19 X- "X- Drive", 20 VSS (power) "Supply Voltage Ground"

## AR1020T-I/SS
designator U?
AR1000 Series Resistive Touch Screen Controller, 1024 x 1024 Resolution, 3.3 Vdc, 5.5 Vdc power, SPI, I²C™ Communication, -40 to 85 degC, 20-pin SSOP (SS20), Tape and Reel; Manufacturer: Microchip; PartNumber: AR1020T-I/SS; DatasheetVersion: Rev. B; PackageVersion: C04-072B; PackageReference: SSOP-SS20; PackageDescription: 20-Lead Plastic Shrink Small Outline, 5.3 x 7.2 mm Body, 0.65 mm Pitch; Supplier 1: Digi-Key; Supplier Part Number 1: AR1020T-I/SS-ND; Supplier 2: Farnell; Supplier Part Number 2: 1762652RL; Supplier 3: Farnell; Supplier Part Number 3: 1762652; Supplier 4: Newark; Supplier Part Number 4: 51R8674; Supplier 5: Newark; Supplier Part Number 5: 24R5606; Supplier 6: Mouser; Supplier Part Number 6: 579-AR1020T-I/SS; Mounting Technology: Surface Mount; ComponentLink1Description: Manufacturer URL; ComponentLink1URL: http://www.microchip.com; ComponentLink2Description: Datasheet; ComponentLink2URL: http://ww1.microchip.com/downloads/en/DeviceDoc/41393B.pdf; ComponentLink3Description: Package Specification; ComponentLink3URL: http://www.microchip.com/stellent/groups/techpub_sg/documents/packagingspec/en012702.pdf; ComponentLink4Description: Product URL; ComponentLink4URL: http://www.microchip.com/AR1020
footprint MCHP-SSOP-SS20_N (SOP, 20-Leads, Body 7.2x5.3mm, Pitch 0.65mm, IPC Medium Density)
footprint MCHP-SSOP-SS20_L (SOP, 20-Leads, Body 7.2x5.3mm, Pitch 0.65mm, IPC High Density)
footprint MCHP-SSOP-SS20_M (SOP, 20-Leads, Body 7.2x5.3mm, Pitch 0.65mm, IPC Low Density)
pins: 1 VDD (power) "Supply Voltage", 2 M1 (in) "Communication Selection", 3 SY- "Sense Y- (8-wire). Tie to VSS, if  not used.", 4 M2 (in) "4/8-wire or 5-wire Sensor  Selection", 5 WAKE (in) "Touch Wake-up/Touch Detection", 6 SIQ (out) "LED Drive/SPI Interrupt. No connect, if not used.", 7 SY+ "Sense Y+ (8-wire). Tie to VSS, if not used.", 8 SS (in) "Slave Select (SPI). Tie to VSS, if not used.", 9 SDO (hiz) "SPI Serial Data Output/I 2 C Interrupt. Tie to Vss, if UART.", 10 NC "No connection. No connect or tie to VSS or VDD.", 11 SCK/SCL/TX (io) "SPI/I2C Serial Clock/UART Transmit", 12 NC "No connection. No connect or tie to VSS or VDD.", 13 SDI/SDA/RX (io) "I2C Serial Data/SPI Serial Data Input/UART Receive", 14 SX+ "Sense X+ (8-wire). Tie to VSS, if not used.", 15 Y+ "Y+ Drive", 16 Y- "Y- Drive", 17 5WSX- "5W Sense (5-wire)/Sense X- (8-wire). Tie to VSS, if not used.", 18 X+ "X+ Drive", 19 X- "X- Drive", 20 VSS (power) "Supply Voltage Ground"

## AR1021-I/ML
designator U?
AR1000 Series Resistive Touch Screen Controller, 1024 x 1024 Resolution, 3.3 Vdc, 5.5 Vdc power, SPI, I²C™ Communication, -40 to 85 degC, 20-pin QFN (ML20), Tube; Manufacturer: Microchip; PartNumber: AR1021-I/ML; DatasheetVersion: Rev. B; PackageVersion: C04-126B; PackageReference: QFN-ML20; PackageDescription: 20-Lead Plastic Quad Flat, No Lead Package, 4 x 4 mm Body, 0.5 mm Pitch; Supplier 1: Digi-Key; Supplier Part Number 1: AR1021-I/ML-ND; Supplier 2: Newark; Supplier Part Number 2: 94T7249; Supplier 3: Mouser; Supplier Part Number 3: 579-AR1021-I/ML; Mounting Technology: Surface Mount; ComponentLink1Description: Manufacturer URL; ComponentLink1URL: http://www.microchip.com; ComponentLink2Description: Datasheet; ComponentLink2URL: http://ww1.microchip.com/downloads/en/DeviceDoc/41393B.pdf; ComponentLink3Description: Package Specification; ComponentLink3URL: http://www.microchip.com/stellent/groups/techpub_sg/documents/packagingspec/en012702.pdf; ComponentLink4Description: Product URL; ComponentLink4URL: http://www.microchip.com/AR1021
footprint MCHP-QFN-ML20_N (QFN, 20-Leads, Body 4x4mm, Pitch 0.5mm, Thermal Pad 2.7X2.7mm, IPC Medium Density)
footprint MCHP-QFN-ML20_L (QFN, 20-Leads, Body 4x4mm, Pitch 0.5mm, Thermal Pad 2.7X2.7mm, IPC High Density)
footprint MCHP-QFN-ML20_M (QFN, 20-Leads, Body 4x4mm, Pitch 0.5mm, Thermal Pad 2.7X2.7mm, IPC Low Density)
pins: 1 M2 (in) "4/8-wire or 5-wire Sensor  Selection", 2 WAKE (in) "Touch Wake-up/Touch Detection", 3 SIQ (out) "LED Drive/SPI Interrupt. No connect, if not used.", 4 SY+ "Sense Y+ (8-wire). Tie to VSS, if not used.", 5 SS (in) "Slave Select (SPI). Tie to VSS, if not used.", 6 SDO (hiz) "SPI Serial Data Output/I 2 C Interrupt. Tie to Vss, if UART.", 7 NC "No connection. No connect or tie to VSS or VDD.", 8 SCK/SCL/TX (io) "SPI/I2C Serial Clock/UART Transmit", 9 NC "No connection. No connect or tie to VSS or VDD.", 10 SDI/SDA/RX (io) "I2C Serial Data/SPI Serial Data Input/UART Receive", 11 SX+ "Sense X+ (8-wire). Tie to VSS, if not used.", 12 Y+ "Y+ Drive", 13 Y- "Y- Drive", 14 5WSX- "5W Sense (5-wire)/Sense X- (8-wire). Tie to VSS, if not used.", 15 X+ "X+ Drive", 16 X- "X- Drive", 17 VSS (power) "Supply Voltage Ground", 18 VDD (power) "Supply Voltage", 19 M1 (in) "Communication Selection", 20 SY- "Sense Y- (8-wire). Tie to VSS, if  not used.", 21 EP

## AR1021-I/SO
designator U?
AR1000 Series Resistive Touch Screen Controller, 1024 x 1024 Resolution, 3.3 Vdc, 5.5 Vdc power, SPI, I²C™ Communication, -40 to 85 degC, 20-pin SOIC (SO20), Tube; Manufacturer: Microchip; PartNumber: AR1021-I/SO; DatasheetVersion: Rev. B; PackageVersion: C04-094C; PackageReference: SOIC-SO20; PackageDescription: 20-Lead Plastic Small Outline, 7.5 x 12.8 mm Body, 1.27 mm Pitch; Supplier 1: Digi-Key; Supplier Part Number 1: AR1021-I/SO-ND; Supplier 2: Newark; Supplier Part Number 2: 26W8080; Supplier 3: Mouser; Supplier Part Number 3: 579-AR1021-I/SO; Mounting Technology: Surface Mount; ComponentLink1Description: Manufacturer URL; ComponentLink1URL: http://www.microchip.com; ComponentLink2Description: Datasheet; ComponentLink2URL: http://ww1.microchip.com/downloads/en/DeviceDoc/41393B.pdf; ComponentLink3Description: Package Specification; ComponentLink3URL: http://www.microchip.com/stellent/groups/techpub_sg/documents/packagingspec/en012702.pdf; ComponentLink4Description: Product URL; ComponentLink4URL: http://www.microchip.com/AR1021
footprint MCHP-SOIC-SO20_N (SOIC, 20-Leads, Body 12.8x7.5mm, Pitch 1.27mm, , IPC Medium Density)
footprint MCHP-SOIC-SO20_L (SOIC, 20-Leads, Body 12.8x7.5mm, Pitch 1.27mm, , IPC High Density)
footprint MCHP-SOIC-SO20_M (SOIC, 20-Leads, Body 12.8x7.5mm, Pitch 1.27mm, , IPC Low Density)
pins: 1 VDD (power) "Supply Voltage", 2 M1 (in) "Communication Selection", 3 SY- "Sense Y- (8-wire). Tie to VSS, if not used.", 4 M2 (in) "4/8-wire or 5-wire Sensor Selection", 5 WAKE (in) "Touch Wake-up/Touch Detection", 6 SIQ (out) "LED Drive/SPI Interrupt. No connect, if not used.", 7 SY+ "Sense Y+ (8-wire). Tie to VSS, if not used.", 8 SS (in) "Slave Select (SPI). Tie to VSS, if not used.", 9 SDO (hiz) "SPI Serial Data Output/I2C interrupt. Tie to VSS. if UART.", 10 NC "No connection. No connect or tie to VSS or VDD.", 11 SCK/SCL/TX (io), 12 NC "No connection. No connect or tie to VSS or VDD.", 13 SDI/SDA/RX (io), 14 SX+ "Sense X+ (8-wire). Tie to VSS, if not used.", 15 Y+ "Y+ Drive", 16 Y- "Y- Drive", 17 5WSX- "5W Sense (5-wire)/Sense X- (8-wire). Tie toVSS, if not used.", 18 X+ "X+ Drive", 19 X- "X- Drive", 20 VSS (power) "Supply Voltage Ground"

## AR1021-I/SS
designator U?
AR1000 Series Resistive Touch Screen Controller, 1024 x 1024 Resolution, 3.3 Vdc, 5.5 Vdc power, SPI, I²C™ Communication, -40 to 85 degC, 20-pin SSOP (SS20), Tube; Manufacturer: Microchip; PartNumber: AR1021-I/SS; DatasheetVersion: Rev. B; PackageVersion: C04-072B; PackageReference: SSOP-SS20; PackageDescription: 20-Lead Plastic Shrink Small Outline, 5.3 x 7.2 mm Body, 0.65 mm Pitch; Supplier 1: Digi-Key; Supplier Part Number 1: AR1021-I/SS-ND; Supplier 2: Farnell; Supplier Part Number 2: 2218568; Supplier 3: Farnell; Supplier Part Number 3: 2164340; Supplier 4: Newark; Supplier Part Number 4: 26W8081; Supplier 5: Mouser; Supplier Part Number 5: 579-AR1021-I/SS; Mounting Technology: Surface Mount; ComponentLink1Description: Manufacturer URL; ComponentLink1URL: http://www.microchip.com; ComponentLink2Description: Datasheet; ComponentLink2URL: http://ww1.microchip.com/downloads/en/DeviceDoc/41393B.pdf; ComponentLink3Description: Package Specification; ComponentLink3URL: http://www.microchip.com/stellent/groups/techpub_sg/documents/packagingspec/en012702.pdf; ComponentLink4Description: Product URL; ComponentLink4URL: http://www.microchip.com/AR1021
footprint MCHP-SSOP-SS20_N (SOP, 20-Leads, Body 7.2x5.3mm, Pitch 0.65mm, IPC Medium Density)
footprint MCHP-SSOP-SS20_L (SOP, 20-Leads, Body 7.2x5.3mm, Pitch 0.65mm, IPC High Density)
footprint MCHP-SSOP-SS20_M (SOP, 20-Leads, Body 7.2x5.3mm, Pitch 0.65mm, IPC Low Density)
pins: 1 VDD (power) "Supply Voltage", 2 M1 (in) "Communication Selection", 3 SY- "Sense Y- (8-wire). Tie to VSS, if not used.", 4 M2 (in) "4/8-wire or 5-wire Sensor Selection", 5 WAKE (in) "Touch Wake-up/Touch Detection", 6 SIQ (out) "LED Drive/SPI Interrupt. No connect, if not used.", 7 SY+ "Sense Y+ (8-wire). Tie to VSS, if not used.", 8 SS (in) "Slave Select (SPI). Tie to VSS, if not used.", 9 SDO (hiz) "SPI Serial Data Output/I2C interrupt. Tie to VSS. if UART.", 10 NC "No connection. No connect or tie to VSS or VDD.", 11 SCK/SCL/TX (io), 12 NC "No connection. No connect or tie to VSS or VDD.", 13 SDI/SDA/RX (io), 14 SX+ "Sense X+ (8-wire). Tie to VSS, if not used.", 15 Y+ "Y+ Drive", 16 Y- "Y- Drive", 17 5WSX- "5W Sense (5-wire)/Sense X- (8-wire). Tie toVSS, if not used.", 18 X+ "X+ Drive", 19 X- "X- Drive", 20 VSS (power) "Supply Voltage Ground"

## AR1021T-I/ML
designator U?
AR1000 Series Resistive Touch Screen Controller, 1024 x 1024 Resolution, 3.3 Vdc, 5.5 Vdc power, SPI, I²C™ Communication, -40 to 85 degC, 20-pin QFN (ML20), Tape and Reel; Manufacturer: Microchip; PartNumber: AR1021T-I/ML; DatasheetVersion: Rev. B; PackageVersion: C04-126B; PackageReference: QFN-ML20; PackageDescription: 20-Lead Plastic Quad Flat, No Lead Package, 4 x 4 mm Body, 0.5 mm Pitch; Supplier 1: Digi-Key; Supplier Part Number 1: AR1021T-I/ML-ND; Supplier 2: Newark; Supplier Part Number 2: 94T7250; Supplier 3: Mouser; Supplier Part Number 3: 579-AR1021T-I/ML; Mounting Technology: Surface Mount; ComponentLink1Description: Manufacturer URL; ComponentLink1URL: http://www.microchip.com; ComponentLink2Description: Datasheet; ComponentLink2URL: http://ww1.microchip.com/downloads/en/DeviceDoc/41393B.pdf; ComponentLink3Description: Package Specification; ComponentLink3URL: http://www.microchip.com/stellent/groups/techpub_sg/documents/packagingspec/en012702.pdf; ComponentLink4Description: Product URL; ComponentLink4URL: http://www.microchip.com/AR1021
footprint MCHP-QFN-ML20_N (QFN, 20-Leads, Body 4x4mm, Pitch 0.5mm, Thermal Pad 2.7X2.7mm, IPC Medium Density)
footprint MCHP-QFN-ML20_L (QFN, 20-Leads, Body 4x4mm, Pitch 0.5mm, Thermal Pad 2.7X2.7mm, IPC High Density)
footprint MCHP-QFN-ML20_M (QFN, 20-Leads, Body 4x4mm, Pitch 0.5mm, Thermal Pad 2.7X2.7mm, IPC Low Density)
pins: 1 M2 (in) "4/8-wire or 5-wire Sensor  Selection", 2 WAKE (in) "Touch Wake-up/Touch Detection", 3 SIQ (out) "LED Drive/SPI Interrupt. No connect, if not used.", 4 SY+ "Sense Y+ (8-wire). Tie to VSS, if not used.", 5 SS (in) "Slave Select (SPI). Tie to VSS, if not used.", 6 SDO (hiz) "SPI Serial Data Output/I 2 C Interrupt. Tie to Vss, if UART.", 7 NC "No connection. No connect or tie to VSS or VDD.", 8 SCK/SCL/TX (io) "SPI/I2C Serial Clock/UART Transmit", 9 NC "No connection. No connect or tie to VSS or VDD.", 10 SDI/SDA/RX (io) "I2C Serial Data/SPI Serial Data Input/UART Receive", 11 SX+ "Sense X+ (8-wire). Tie to VSS, if not used.", 12 Y+ "Y+ Drive", 13 Y- "Y- Drive", 14 5WSX- "5W Sense (5-wire)/Sense X- (8-wire). Tie to VSS, if not used.", 15 X+ "X+ Drive", 16 X- "X- Drive", 17 VSS (power) "Supply Voltage Ground", 18 VDD (power) "Supply Voltage", 19 M1 (in) "Communication Selection", 20 SY- "Sense Y- (8-wire). Tie to VSS, if  not used.", 21 EP

## AR1021T-I/SS
designator U?
AR1000 Series Resistive Touch Screen Controller, 1024 x 1024 Resolution, 3.3 Vdc, 5.5 Vdc power, SPI, I²C™ Communication, -40 to 85 degC, 20-pin SSOP (SS20), Tape and Reel; Manufacturer: Microchip; PartNumber: AR1021T-I/SS; DatasheetVersion: Rev. B; PackageVersion: C04-072B; PackageReference: SSOP-SS20; PackageDescription: 20-Lead Plastic Shrink Small Outline, 5.3 x 7.2 mm Body, 0.65 mm Pitch; Supplier 1: Digi-Key; Supplier Part Number 1: AR1021T-I/SS-ND; Supplier 2: Newark; Supplier Part Number 2: 26W8083; Supplier 3: Mouser; Supplier Part Number 3: 579-AR1021T-I/SS; Mounting Technology: Surface Mount; ComponentLink1Description: Manufacturer URL; ComponentLink1URL: http://www.microchip.com; ComponentLink2Description: Datasheet; ComponentLink2URL: http://ww1.microchip.com/downloads/en/DeviceDoc/41393B.pdf; ComponentLink3Description: Package Specification; ComponentLink3URL: http://www.microchip.com/stellent/groups/techpub_sg/documents/packagingspec/en012702.pdf; ComponentLink4Description: Product URL; ComponentLink4URL: http://www.microchip.com/AR1021
footprint MCHP-SSOP-SS20_N (SOP, 20-Leads, Body 7.2x5.3mm, Pitch 0.65mm, IPC Medium Density)
footprint MCHP-SSOP-SS20_L (SOP, 20-Leads, Body 7.2x5.3mm, Pitch 0.65mm, IPC High Density)
footprint MCHP-SSOP-SS20_M (SOP, 20-Leads, Body 7.2x5.3mm, Pitch 0.65mm, IPC Low Density)
pins: 1 VDD (power) "Supply Voltage", 2 M1 (in) "Communication Selection", 3 SY- "Sense Y- (8-wire). Tie to VSS, if not used.", 4 M2 (in) "4/8-wire or 5-wire Sensor Selection", 5 WAKE (in) "Touch Wake-up/Touch Detection", 6 SIQ (out) "LED Drive/SPI Interrupt. No connect, if not used.", 7 SY+ "Sense Y+ (8-wire). Tie to VSS, if not used.", 8 SS (in) "Slave Select (SPI). Tie to VSS, if not used.", 9 SDO (hiz) "SPI Serial Data Output/I2C interrupt. Tie to VSS. if UART.", 10 NC "No connection. No connect or tie to VSS or VDD.", 11 SCK/SCL/TX (io), 12 NC "No connection. No connect or tie to VSS or VDD.", 13 SDI/SDA/RX (io), 14 SX+ "Sense X+ (8-wire). Tie to VSS, if not used.", 15 Y+ "Y+ Drive", 16 Y- "Y- Drive", 17 5WSX- "5W Sense (5-wire)/Sense X- (8-wire). Tie toVSS, if not used.", 18 X+ "X+ Drive", 19 X- "X- Drive", 20 VSS (power) "Supply Voltage Ground"